# EAGLE library part LTC3809 (library PowerProducts)
No Rsense, Low EMI, Synchronous DC/DC Controller
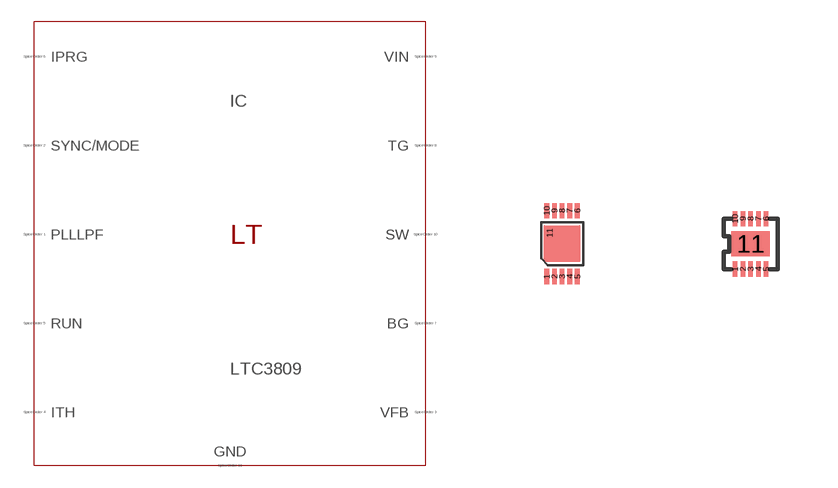
[diagram p340: symbol with the pads of MSOP10(MSE); footprints MSOP10(MSE), DFN10(DD)]

Designator prefix IC

## LTC3809MSE (SPICEMODEL: LTC3809.sub; SPICEPREFIX: X; VALUE2: LTC3809)  [MSOP10(MSE)]
1  PLLLPF  pas
2  SYNC/MODE  pas
3  VFB  pas
4  ITH  pas
5  RUN  pas
6  IPRG  pas
7  BG  pas
8  TG  pas
9  VIN  pas
10  SW  pas
11  GND  pas

## LTC3809 (SPICEMODEL: LTC3809.sub; SPICEPREFIX: X; VALUE2: LTC3809)  [DFN10(DD)]
Pads as for MSOP10(MSE)

## Footprint MSOP10(MSE) (pad centres in mm)
Package generated from: MSOP10(MSE).asc (!PADS-POWERPCB-V9.3-BASIC! DESIGN DATABASE ASCII FILE 1.0) with :import-pads-powerpcb-v5.ulp Version 1.0.1 at 04.10.2012 14:11:19
smd 0.116 x 0.387: 1 -0.381,-0.823; 2 -0.191,-0.823; 3 0,-0.823; 4 0.191,-0.823; 5 0.381,-0.823; 6 0.381,0.823; 7 0.191,0.823; 8 0,0.823; 9 -0.191,0.823; 10 -0.381,0.823
smd 0 x 0.097: 11 -0.31,0.271

## Footprint DFN10(DD) (pad centres in mm)
Package generated from: DFN10(DD).asc (!PADS-POWERPCB-V9.3-BASIC! DESIGN DATABASE ASCII FILE 1.0) with :import-pads-powerpcb-v5.ulp Version 1.0.1 at 04.10.2012 14:11:16
smd 0.116 x 0.387: 1 -0.387,-0.629; 2 -0.194,-0.629; 3 0,-0.629; 4 0.194,-0.629; 5 0.387,-0.629; 6 0.387,0.629; 7 0.194,0.629; 8 0,0.629; 9 -0.194,0.629; 10 -0.387,0.629
smd 0.968 x 0.629: 11 0,0